# EAGLE library part RP (library MyLibrary)
Resistor Packs
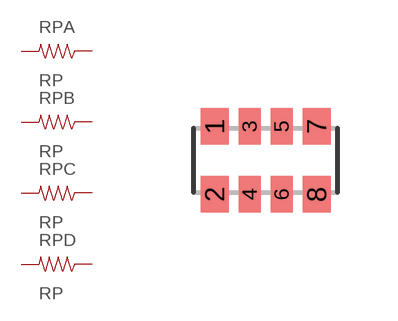
[diagram p10: symbol with the pads of RP0603; footprint RP0603]

Designator prefix RP; gates A=RES B=RES C=RES D=RES

## RP-0603  [RP0603]
1  A:1  pas
2  A:2  pas
3  B:1  pas
4  B:2  pas
5  C:1  pas
6  C:2  pas
7  D:1  pas
8  D:2  pas

## Footprint RP0603 (pad centres in mm)
smd 0.7 x 0.9: 1 -1.275,0.85; 2 -1.275,-0.85; 7 1.275,0.85; 8 1.275,-0.85
smd 0.55 x 0.9: 3 -0.4,0.85; 4 -0.4,-0.85; 5 0.4,0.85; 6 0.4,-0.85